# Altium schematic symbol library IC.SchLib: 1 symbol
Pins are listed as number, name and electrical type; pins without a type are passive.

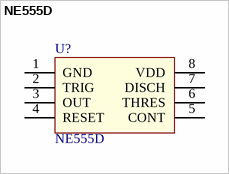
[diagram p0: symbol NE555D]

## NE555D
designator U?
IC OSC SGL TIMER 100KHZ; Manufacturer: TI; Note: SMT; Package: SOIC-8; Stock Code: NE555D; Supplier: tme.vn; Part Number: NE555D; Stock Description: IC OSC SGL TIMER 100KHZ; Supplier Code: NE555D; Supplier Link: http://www.tme.vn/Product.aspx?id=1099; Unit Price: 4000; Value: NE555D
footprint SOIC-8 (SOIC, 8-Leads, Body 5.0x4.0mm (max), Pitch 1.27mm, IPC Medium Density)
pins: 1 GND, 2 TRIG, 3 OUT, 4 RESET, 5 CONT, 6 THRES, 7 DISCH, 8 VDD